# Altium footprint library ROBOT_MOTHERBOARD.PcbLib: 40 footprints (part 2 of 3)
Each footprint in its own frame and in the unit in brackets; x right, y up, seen from the top. Pads: shape width x height; smd on the part's side, far side on the other; paste and mask are expansions set on the pad; w line width, h text height; cw(c..) or ccw(c..) is an arc to the next point about the centre after c.
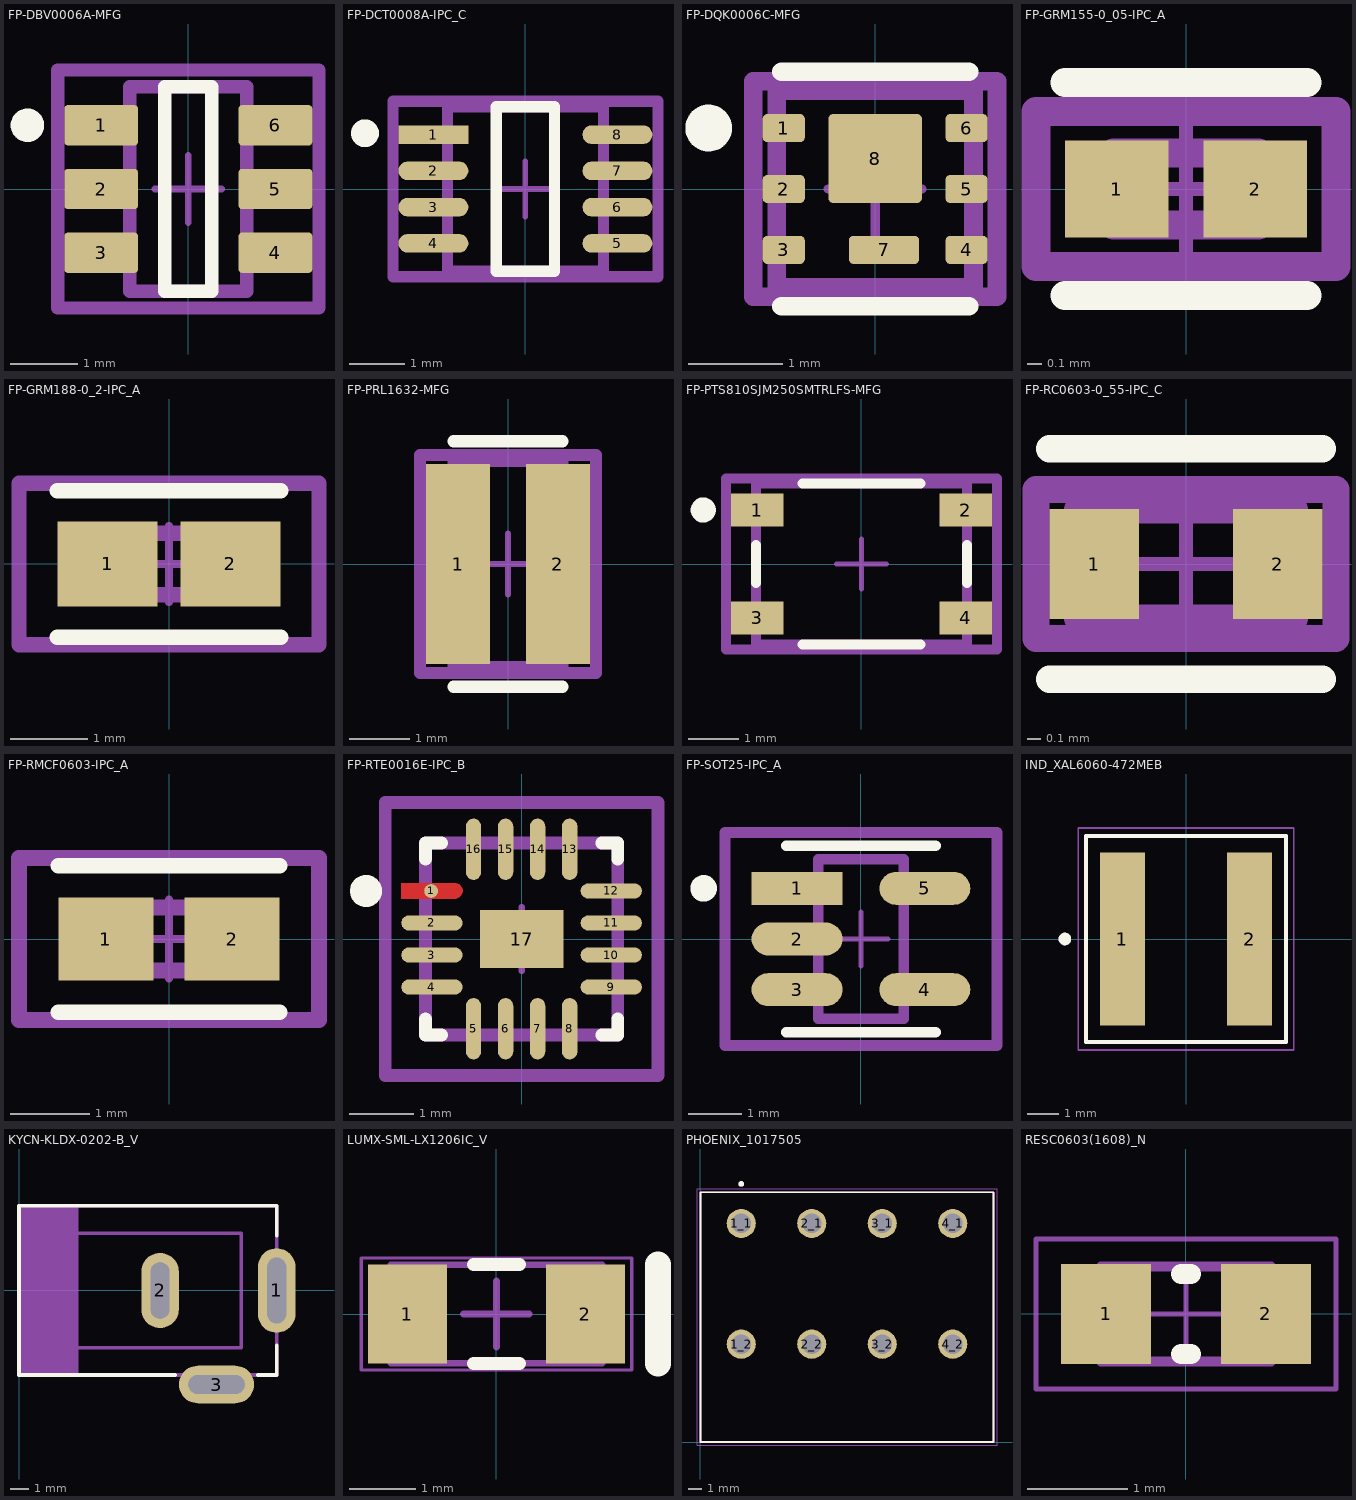
[diagram p1: the footprints below, top view; thin cyan lines are the x and y axes]

## FP-DBV0006A-MFG [mm]
pads (6):
  rrect17% 1.1x0.6 smd paste+0 mask+0: 1(-1.3,0.95) 2(-1.3,0) 3(-1.3,-0.95) 4(1.3,-0.95) 5(1.3,0) 6(1.3,0.95)
Top Overlay:
  circle w0.25: c-2.4,0.95 r0.125
  lines w0.2: -0.35,-1.525 0.35,-1.525 0.35,1.525 -0.35,1.525 -0.35,-1.525
Top 3D Body:
  lines w0.2: -0.875,-1.525 0.875,-1.525 0.875,1.525 -0.875,1.525 -0.875,-1.525
Top Courtyard:
  lines w0.2: -1.95,-1.775 1.95,-1.775 1.95,1.775 -1.95,1.775 -1.95,-1.775
Top Assembly:
  lines w0.2: -1.95,-1.775 1.95,-1.775 1.95,1.775 -1.95,1.775 -1.95,-1.775
  text ".Designator" at 0,0.188 h1
Top Component Center:
  lines w0.1: -0.5,0 0.5,0 ; 0,-0.5 0,0.5
3D body "IC_Texas_Instruments_LM74700QDBVRQ1_eec.STEP": height 0.25, standoff 0, extent -1.95,-1.775 1.95,1.775

## FP-DCT0008A-IPC_C [mm]
pads (8):
  rect 1.254x0.336 smd paste+0 mask+0: 1(-1.65,0.975)
  rrect100% 1.254x0.336 smd paste+0 mask+0: 2(-1.65,0.325) 3(-1.65,-0.325) 4(-1.65,-0.975) 5(1.65,-0.975) 6(1.65,-0.325) 7(1.65,0.325) 8(1.65,0.975)
Top Overlay:
  circle w0.25: c-2.877,1 r0.125
  lines w0.2: -0.523,-1.475 0.523,-1.475 0.523,1.475 -0.523,1.475 -0.523,-1.475
Top 3D Body:
  lines w0.2: -1.4,-1.475 1.4,-1.475 1.4,1.475 -1.4,1.475 -1.4,-1.475
Top Courtyard:
  lines w0.2: -2.377,-1.575 2.377,-1.575 2.377,1.575 -2.377,1.575 -2.377,-1.575
Top Assembly:
  lines w0.2: -2.377,-1.575 2.377,-1.575 2.377,1.575 -2.377,1.575 -2.377,-1.575
  text ".Designator" at 0,0.188 h1
Top Component Center:
  lines w0.1: -0.5,0 0.5,0 ; 0,-0.5 0,0.5
3D body "IC_Texas_Instruments_SN74LVC2T45DCTR_eec.STEP": height 0.25, standoff 0, extent -2.377,-1.575 2.377,1.575

## FP-DQK0006C-MFG [mm]
height 1
pads (8):
  rrect33% 0.45x0.3 smd paste+0 mask+0: 1(-0.975,0.65) 2(-0.975,0) 3(-0.975,-0.65) 4(0.975,-0.65) 5(0.975,0) 6(0.975,0.65)
  rrect33% 0.75x0.3 smd paste-1000 mask+0: 7(0.095,-0.65)
  rrect11% 1x0.95 smd paste-1000 mask+0: 8(0,0.325)
Top Overlay:
  circle w0.25: c-1.775,0.65 r0.125
  lines w0.2: -1,-1.25 1,-1.25 ; -1,1.25 1,1.25
Top Paste:
  region: 0.4,0.755 0.41,0.755 0.428,0.747 0.442,0.733 0.45,0.715 0.45,0.705 0.45,-0.055 0.45,-0.065 0.442,-0.083 0.428,-0.097 0.41,-0.105 0.4,-0.105 -0.4,-0.105 -0.41,-0.105 -0.428,-0.097 -0.442,-0.083 -0.45,-0.065 -0.45,-0.055 -0.45,0.705 -0.45,0.715 -0.442,0.733 -0.428,0.747 -0.41,0.755 -0.4,0.755
  region: 0.395,-0.505 0.405,-0.505 0.423,-0.513 0.437,-0.527 0.445,-0.545 0.445,-0.555 0.445,-0.745 0.445,-0.755 0.437,-0.773 0.423,-0.787 0.405,-0.795 0.395,-0.795 -0.205,-0.795 -0.215,-0.795 -0.233,-0.787 -0.247,-0.773 -0.255,-0.755 -0.255,-0.745 -0.255,-0.555 -0.255,-0.545 -0.247,-0.527 -0.233,-0.513 -0.215,-0.505 -0.205,-0.505
Top 3D Body:
  lines w0.2: -1.05,-1.05 1.05,-1.05 1.05,1.05 -1.05,1.05 -1.05,-1.05
Top Courtyard:
  lines w0.2: -1.3,-1.15 1.3,-1.15 1.3,1.15 -1.3,1.15 -1.3,-1.15
Top Assembly:
  lines w0.2: -1.3,-1.15 1.3,-1.15 1.3,1.15 -1.3,1.15 -1.3,-1.15
Top Component Center:
  lines w0.1: -0.5,0 0.5,0 ; 0,-0.5 0,0.5
3D body "Trans_Texas_Instruments_CSD13202Q2_eec.STEP": height 0.25, standoff 0, extent -1.3,-1.15 1.3,1.15

## FP-GRM155-0_05-IPC_A [mm]
height 1
pads (2):
  rect 0.715x0.672 smd paste+0 mask+0: 1(-0.479,0) 2(0.479,0)
Top Overlay:
  lines w0.2: -0.836,-0.736 0.836,-0.736 ; -0.836,0.736 0.836,0.736
Top 3D Body:
  lines w0.2: -0.5,-0.25 -0.5,0.25 0.5,0.25 0.5,-0.25 -0.5,-0.25
Top Courtyard:
  lines w0.2: -1.036,-0.536 -1.036,0.536 1.036,0.536 1.036,-0.536 -1.036,-0.536
Top Assembly:
  lines w0.2: -1.036,-0.536 -1.036,0.536 1.036,0.536 1.036,-0.536 -1.036,-0.536
Top Component Center:
  lines w0.1: -0.5,0 0.5,0 ; 0,-0.5 0,0.5
3D body "Cap_Murata_GRM1552C1H271GA01J_eec.STEP": height 0.25, standoff 0, extent -1.036,-0.536 1.036,0.536

## FP-GRM188-0_2-IPC_A [mm]
height 1
pads (2):
  rect 1.305x1.106 smd paste+0 mask+0: 1(-0.801,0) 2(0.801,0)
Top Overlay:
  lines w0.2: -1.453,-0.953 1.453,-0.953 ; -1.453,0.953 1.453,0.953
Top 3D Body:
  lines w0.2: -0.8,-0.4 0.8,-0.4 0.8,0.4 -0.8,0.4 -0.8,-0.4
Top Courtyard:
  lines w0.2: -1.953,-1.053 1.953,-1.053 1.953,1.053 -1.953,1.053 -1.953,-1.053
Top Assembly:
  lines w0.2: -1.953,-1.053 1.953,-1.053 1.953,1.053 -1.953,1.053 -1.953,-1.053
  text ".Designator" at 0,0.188 h1
Top Component Center:
  lines w0.1: -0.5,0 0.5,0 ; 0,-0.5 0,0.5
3D body "Cap_Murata_GRM188C71C225KE11D_eec.STEP": height 0.25, standoff 0, extent -1.953,-1.053 1.953,1.053

## FP-PRL1632-MFG [mm]
height 1
pads (2):
  rect 1.05x3.3 smd paste+0 mask+0: 1(-0.825,0) 2(0.825,0)
Top Overlay:
  lines w0.2: -0.9,-2.025 0.9,-2.025 ; -0.9,2.025 0.9,2.025
Top 3D Body:
  lines w0.2: -0.9,-1.7 0.9,-1.7 0.9,1.7 -0.9,1.7 -0.9,-1.7
Top Courtyard:
  lines w0.2: -1.45,-1.8 1.45,-1.8 1.45,1.8 -1.45,1.8 -1.45,-1.8
Top Assembly:
  lines w0.2: -1.45,-1.8 1.45,-1.8 1.45,1.8 -1.45,1.8 -1.45,-1.8
Top Component Center:
  lines w0.1: -0.5,0 0.5,0 ; 0,-0.5 0,0.5
3D body "Res_Susumu_PRL1632-R006-F-T1_eec.STEP": height 0.25, standoff 0, extent -1.45,-1.8 1.45,1.8

## FP-PTS810SJM250SMTRLFS-MFG [mm]
pads (4):
  rect 1.05x0.65 smd paste+0 mask+0: 1(-2.075,1.075) 2(2.075,1.075) 3(-2.075,-1.075) 4(2.075,-1.075)
Top Overlay:
  circle w0.25: c-3.15,1.075 r0.125
  lines w0.2: -2.1,-0.375 -2.1,0.375 ; -1.175,-1.6 1.175,-1.6 ; -1.175,1.6 1.175,1.6 ; 2.1,-0.375 2.1,0.375
Top 3D Body:
  lines w0.2: -2.1,-1.6 2.1,-1.6 2.1,1.6 -2.1,1.6 -2.1,-1.6
Top Courtyard:
  lines w0.2: -2.7,-1.7 2.7,-1.7 2.7,1.7 -2.7,1.7 -2.7,-1.7
Top Assembly:
  lines w0.2: -2.7,-1.7 2.7,-1.7 2.7,1.7 -2.7,1.7 -2.7,-1.7
  text ".Designator" at 0,0.188 h1
Top Component Center:
  lines w0.1: -0.5,0 0.5,0 ; 0,-0.5 0,0.5
3D body "Switch_C&K_Components_PTS810SJM250SMTRLFS_eec.STEP": height 0.25, standoff 0, extent -2.7,-1.7 2.7,1.7

## FP-RC0603-0_55-IPC_C [mm]
pads (2):
  rect 0.659x0.812 smd paste+0 mask+0: 1(-0.677,0) 2(0.677,0)
Top Overlay:
  lines w0.2: -1.006,-0.85 1.006,-0.85 ; -1.006,0.85 1.006,0.85
Top 3D Body:
  lines w0.2: -0.8,-0.4 0.8,-0.4 0.8,0.4 -0.8,0.4 -0.8,-0.4
Top Courtyard:
  lines w0.2: -1.106,-0.55 1.106,-0.55 1.106,0.55 -1.106,0.55 -1.106,-0.55
Top Assembly:
  lines w0.2: -1.106,-0.55 1.106,-0.55 1.106,0.55 -1.106,0.55 -1.106,-0.55
  text ".Designator" at 0,0.188 h1
Top Component Center:
  lines w0.1: -0.5,0 0.5,0 ; 0,-0.5 0,0.5
3D body "Res_Yageo_RC0603FR-07100KL_eec.STEP": height 0.25, standoff 0, extent -1.106,-0.55 1.106,0.55

## FP-RMCF0603-IPC_A [mm]
pads (2):
  rect 1.206x1.058 smd paste+0 mask+0: 1(-0.801,0) 2(0.801,0)
Top Overlay:
  lines w0.2: -1.404,-0.929 1.404,-0.929 ; -1.404,0.929 1.404,0.929
Top 3D Body:
  lines w0.2: -0.775,-0.4 0.775,-0.4 0.775,0.4 -0.775,0.4 -0.775,-0.4
Top Courtyard:
  lines w0.2: -1.904,-1.029 1.904,-1.029 1.904,1.029 -1.904,1.029 -1.904,-1.029
Top Assembly:
  lines w0.2: -1.904,-1.029 1.904,-1.029 1.904,1.029 -1.904,1.029 -1.904,-1.029
  text ".Designator" at 0,0.188 h1
Top Component Center:
  lines w0.1: -0.5,0 0.5,0 ; 0,-0.5 0,0.5
3D body "Res_Stackpole_Electronics_RMCF0603JT1M80_eec.STEP": height 0.25, standoff 0, extent -1.904,-1.029 1.904,1.029

## FP-RTE0016E-IPC_B [mm]
height 1
pads (17):
  round 0.215 smd paste+0 mask+0: 1(-1.413,0.75)
  rrect100% 0.957x0.239 smd paste+0 mask+0: 2(-1.401,0.25) 3(-1.401,-0.25) 4(-1.401,-0.75) 9(1.401,-0.75) 10(1.401,-0.25) 11(1.401,0.25) 12(1.401,0.75)
  rrect100% 0.239x0.957 smd paste+0 mask+0: 5(-0.75,-1.401) 6(-0.25,-1.401) 7(0.25,-1.401) 8(0.75,-1.401) 13(0.75,1.401) 14(0.25,1.401) 15(-0.25,1.401) 16(-0.75,1.401)
  rect 1.3x0.9 smd paste-1000 mask+0: 17(0,0)
Top Layer:
  region: -1.879,0.87 -1.042,0.87 -1.018,0.87 -0.974,0.851 -0.94,0.818 -0.922,0.774 -0.922,0.75 -0.922,0.726 -0.94,0.682 -0.974,0.649 -1.018,0.63 -1.042,0.63 -1.879,0.63
Top Overlay:
  circle w0.25: c-2.429,0.75 r0.125
  lines w0.2: -1.5,-1.25 -1.5,-1.5 -1.25,-1.5 ; -1.5,1.25 -1.5,1.5 -1.25,1.5 ; 1.25,-1.5 1.5,-1.5 1.5,-1.25 ; 1.25,1.5 1.5,1.5 1.5,1.25
Top Paste:
  rectangle: -0.456,-0.256 0.456,0.256
Top 3D Body:
  lines w0.2: -1.5,-1.5 1.5,-1.5 1.5,1.5 -1.5,1.5 -1.5,-1.5
Top Courtyard:
  lines w0.2: -2.129,-2.129 2.129,-2.129 2.129,2.129 -2.129,2.129 -2.129,-2.129
Top Assembly:
  lines w0.2: -2.129,-2.129 2.129,-2.129 2.129,2.129 -2.129,2.129 -2.129,-2.129
  text ".Designator" at 0,0.188 h1
Top Component Center:
  lines w0.1: -0.5,0 0.5,0 ; 0,-0.5 0,0.5
3D body "IC_Texas_Instruments_TPS43060RTET_eec.STEP": height 0.25, standoff 0, extent -2.129,-2.129 2.129,2.129

## FP-SOT25-IPC_A [mm]
pads (5):
  rect 1.707x0.616 smd paste+0 mask+0: 1(-1.201,0.95)
  rrect100% 1.707x0.616 smd paste+0 mask+0: 2(-1.201,0) 3(-1.201,-0.95) 4(1.201,-0.95) 5(1.201,0.95)
Top Overlay:
  circle w0.25: c-2.954,0.95 r0.125
  lines w0.2: -1.4,-1.75 1.4,-1.75 ; -1.4,1.75 1.4,1.75
Top 3D Body:
  lines w0.2: -0.8,-1.5 0.8,-1.5 0.8,1.5 -0.8,1.5 -0.8,-1.5
Top Courtyard:
  lines w0.2: -2.554,-2 2.554,-2 2.554,2 -2.554,2 -2.554,-2
Top Assembly:
  lines w0.2: -2.554,-2 2.554,-2 2.554,2 -2.554,2 -2.554,-2
  text ".Designator" at 0,-0.001 h1
Top Component Center:
  lines w0.1: -0.5,0 0.5,0 ; 0,-0.5 0,0.5
3D body "IC_Diodes_Inc_AP2127K-3_3TRG1_eec.STEP": height 0.25, standoff 0, extent -2.554,-2 2.554,2

## IND_XAL6060-472MEB [mm]
height 3.1
pads (2):
  rect 1.43x5.5 smd: 1(-2.02,0) 2(2.02,0)
Top Overlay:
  circle w0.2: c-3.85,0 r0.1
  lines w0.127: -3.18,-3.28 -3.18,3.28 3.18,3.28 3.18,-3.28 -3.18,-3.28
Mechanical 13:
  circle w0.2: c-3.85,0 r0.1
  lines w0.127: -3.18,-3.28 -3.18,3.28 3.18,3.28 3.18,-3.28 -3.18,-3.28
Mechanical 15:
  lines w0.05: -3.43,-3.53 3.43,-3.53 3.43,3.53 -3.43,3.53 -3.43,-3.53
3D body "step_temp.STEP": height 6.1, standoff 0, extent -3.18,-3.28 3.18,3.28

## KYCN-KLDX-0202-B_V [mm] "3 Conductor Jack, 9 x 14.5 mm Body"
pads (3):
  oval 2x4.5 hole 1 slot 3.5 at 90 deg: 1(13.7,0)
  oval 2x4 hole 1 slot 3 at 90 deg: 2(7.5,0)
  oval 4x2 hole 1 slot 3 at 0 deg: 3(10.5,-5)
Top Overlay:
  lines w0.2: 8.3,-4.5 0,-4.5 0,4.5 13.7,4.5 13.7,2.917 ; 12.7,-4.5 13.7,-4.5 13.7,-2.917
Mechanical 7:
  rectangle: -0.003,-4.509 3.172,4.491
  lines w0.2: 0,-3.048 11.811,-3.048 11.811,3.048 0,3.048 ; 0,-4.5 0,4.5 13.7,4.5 13.7,-4.5 12.7,-4.5 0,-4.5
  lines w1: 7.5,-1 7.5,1 ; 9.5,-5 11.5,-5 ; 13.7,-1.2 13.7,1.2
3D body "Power Jack - TSH-3655-PBT-T.stp": height 11, standoff -3.5, extent -0.149,-5.004 14.351,4.496

## LUMX-SML-LX1206IC_V [mm] "SMD, 2-Leads, Body 3.2x1.5mm"
height 1
pads (2):
  rect 1.2x1.5 smd: 1(-1.35,0) 2(1.35,0)
Top Overlay:
  lines w0.2: -0.35,-0.75 0.35,-0.75 ; -0.35,0.75 0.35,0.75
  lines w0.4: 2.45,-0.75 2.45,0.75
Mechanical 13:
  lines w0.1: -1.6,-0.75 -1.6,0.75 1.6,0.75 1.6,-0.75 -1.6,-0.75
Mechanical 15:
  lines w0.05: -2.05,-0.85 -2.05,0.85 2.05,0.85 2.05,-0.85 -2.05,-0.85
  lines w0.1: -0.5,0 0.5,0 ; 0,-0.5 0,0.5
3D body: height 1.1, standoff 0, extent -1.6,-0.8 1.6,0.8

## PHOENIX_1017505 [mm]
pads (8):
  round 2.1 hole 1.4: 1_1(2.94,15.75) 1_2(2.94,7.05) 2_1(8.02,15.75) 2_2(8.02,7.05) 3_1(13.1,15.75) 3_2(13.1,7.05) 4_1(18.18,15.75) 4_2(18.18,7.05)
Top Overlay:
  circle w0.2: c2.94,18.6 r0.1
  lines w0.127: 0,0 0,18 21.12,18 21.12,0 0,0
Mechanical 13:
  circle w0.2: c2.94,18.6 r0.1
  lines w0.127: 0,0 0,18 21.12,18 21.12,0 0,0
Mechanical 15:
  lines w0.05: -0.25,-0.25 -0.25,18.25 21.37,18.25 21.37,-0.25 -0.25,-0.25
3D body "1017505.stp": height 19, standoff -3.5, extent 0,0.024 21.12,18.024

## RESC0603(1608)_N [mm] "Chip Resistor, Body 1.6x0.8mm, IPC Medium Density"
height 0.6
pads (2):
  rect 0.9x1 smd: 1(-0.8,0) 2(0.8,0)
Top Overlay:
  lines w0.2: -0.05,-0.4 0.05,-0.4 ; -0.05,0.4 0.05,0.4
Mechanical 13:
  lines w0.1: -0.85,-0.475 -0.85,0.475 0.85,0.475 0.85,-0.475 -0.85,-0.475
Mechanical 15:
  lines w0.05: -0.475,0 0.475,0 ; 0,-0.475 0,0.475 ; -1.5,-0.75 -1.5,0.75 1.5,0.75 1.5,-0.75 -1.5,-0.75
3D body: height 0.6, standoff 0, extent 0.581,-0.474 0.85,0.475
3D body: height 0.6, standoff 0, extent -0.58,-0.474 0.581,0.475
3D body: height 0.6, standoff 0, extent -0.849,-0.474 -0.58,0.475